# Altium footprint library newwind.PcbLib: 1 footprints
Each footprint in its own frame and in the unit in brackets; x right, y up, seen from the top. Pads: shape width x height; smd on the part's side, far side on the other; paste and mask are expansions set on the pad; w line width, h text height; cw(c..) or ccw(c..) is an arc to the next point about the centre after c.
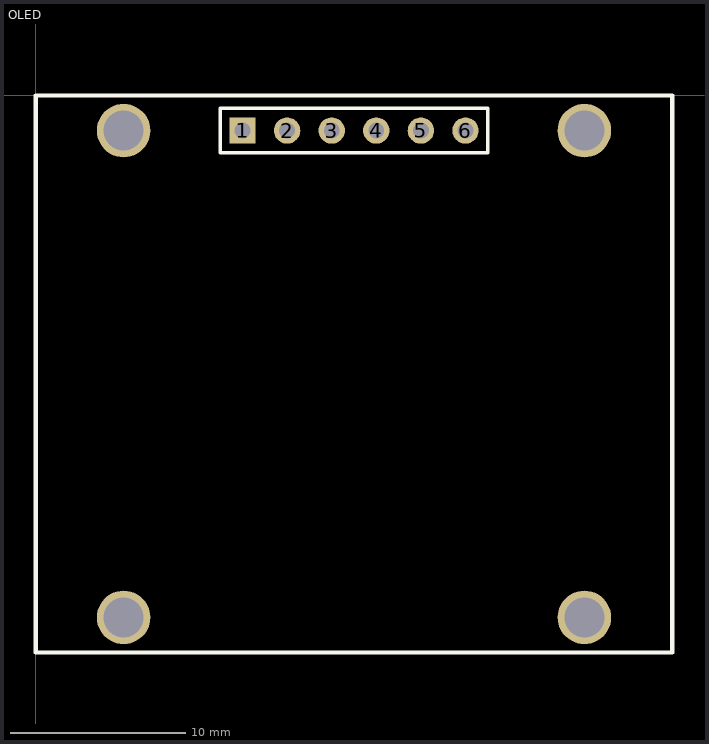
[diagram p0: the footprint, top view; thin cyan lines are the x and y axes]

## OLED [mm]
pads (10):
  rect 1.5x1.5 hole 0.9: 1(11.78,-2)
  round 1.5 hole 0.9: 2(14.32,-2) 3(16.86,-2) 4(19.4,-2) 5(21.94,-2) 6(24.48,-2)
  round 3.048 hole 2.286: ""(5,-29.74) ""(5,-2) ""(31.26,-29.74) ""(31.26,-2)
Top Overlay:
  lines w0.2: 10.51,-3.27 10.51,-0.73 25.75,-0.73 25.75,-3.27 10.51,-3.27
  lines w0.254: 0,-31.74 36.26,-31.74 36.26,0 0,0 0,-31.74